# Altium schematic symbol library BL8021.SchLib: 1 symbol
Pins are listed as number, name and electrical type; pins without a type are passive.

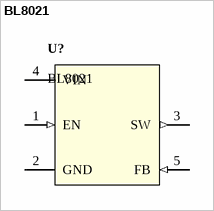
[diagram p0: symbol BL8021]

## BL8021
designator U?
1.2A 1.5MHz 7V Synchronous Buck Converter
pins: 1 EN (in), 2 GND, 3 SW (out), 4 VIN (power), 5 FB (in)